# Altium integrated library Renesas Microcontroller H8S.IntLib: 670 symbols (part 22 of 70)
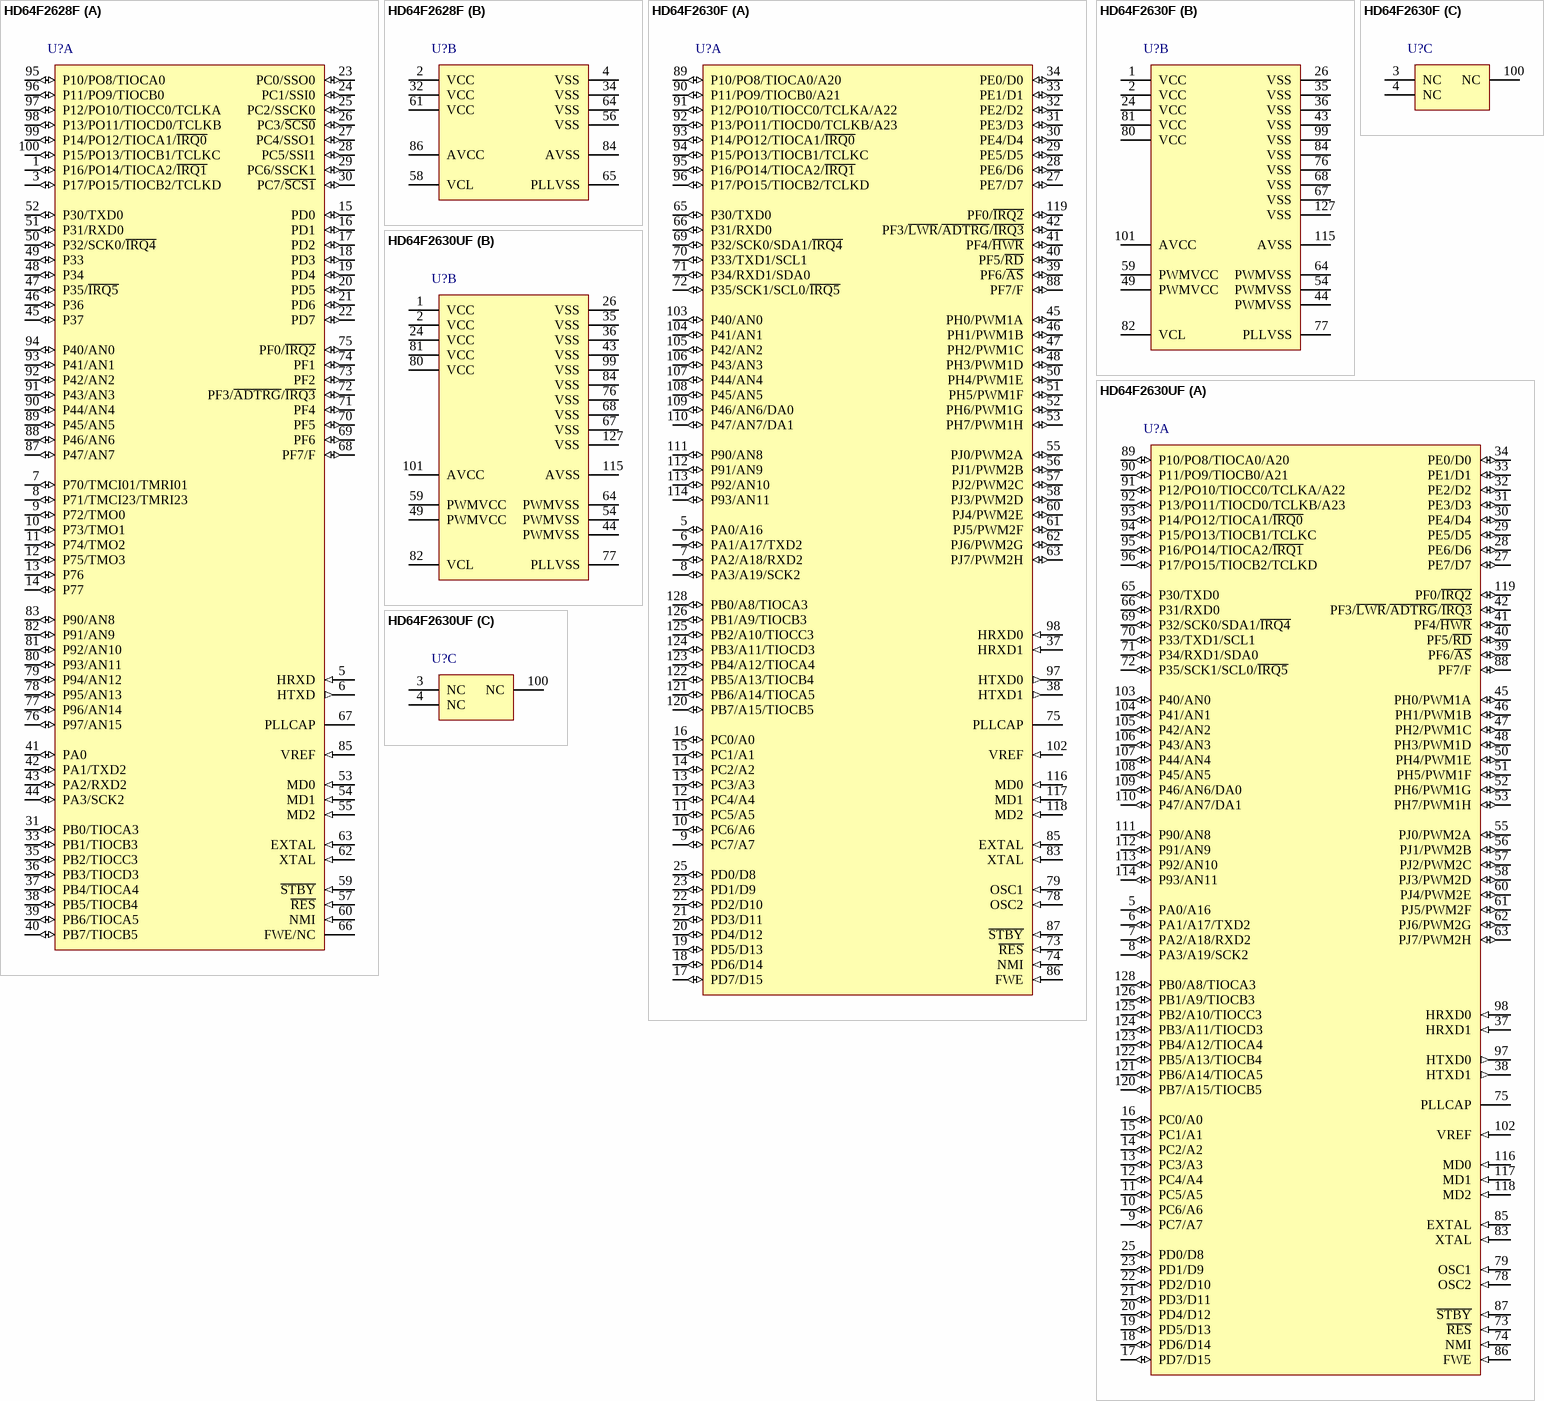
[diagram p355: symbols HD64F2628F to HD64F2630UF]

## HD64F2628F
designator U?
Flash memory H8S/2600 Series, 2628 Group MCU, 128K ROM, 8K RAM, FP-100M Pkg; Published: 28-Aug-2009; DatasheetVersion: Rev.3.00, Oct-2005; PackageVersion: Sep-2009; PackageReference: PRQP0100KB-A; Publisher: Altium Limited; PackageDescription: 100-Pin Plastic Quad Flat Pack, 14 x 14 x 2.7 mm Body, 0.5 mm Pitch; Code_JEITA: P-QFP100-14x14-0.50; ComponentLink1Description: Manufacturer Link; ComponentLink1URL: http://sg.renesas.com/fmwk.jsp?cnt=h8s_family_landing.jsp&fp=/products/mpumcu/h8s_family/; ComponentLink2Description: Datasheet; ComponentLink2URL: http://documentation.renesas.com/eng/products/mpumcu/rej09b0155_h8s2628.pdf; ComponentLink3Description: Packaging Specification; ComponentLink3URL: http://sg.renesas.com/media/products/common_info/package/pdf/ic/code/prqp0100kb_a.pdf
footprint PRQP0100KB-A_N (Shrink QFP, 100-Leads, Body 14x14mm, Pitch 0.5mm, IPC Medium Density)
footprint PRQP0100KB-A_L (Shrink QFP, 100-Leads, Body 14x14mm, Pitch 0.5mm, IPC High Density)
footprint PRQP0100KB-A_M (Shrink QFP, 100-Leads, Body 14x14mm, Pitch 0.5mm, IPC Low Density)
part A pins: 1 P16/PO14/TIOCA2/~{IRQ1} (io), 3 P17/PO15/TIOCB2/TCLKD (io), 5 HRXD (in), 6 HTXD (out), 7 P70/TMCI01/TMRI01 (io), 8 P71/TMCI23/TMRI23 (io), 9 P72/TMO0 (io), 10 P73/TMO1 (io), 11 P74/TMO2 (io), 12 P75/TMO3 (io), 13 P76 (io), 14 P77 (io), 15 PD0 (io), 16 PD1 (io), 17 PD2 (io), 18 PD3 (io), 19 PD4 (io), 20 PD5 (io), 21 PD6 (io), 22 PD7 (io), 23 PC0/SSO0 (io), 24 PC1/SSI0 (io), 25 PC2/SSCK0 (io), 26 PC3/~{SCS0} (io), 27 PC4/SSO1 (io), 28 PC5/SSI1 (io), 29 PC6/SSCK1 (io), 30 PC7/~{SCS1} (io), 31 PB0/TIOCA3 (io), 33 PB1/TIOCB3 (io), 35 PB2/TIOCC3 (io), 36 PB3/TIOCD3 (io), 37 PB4/TIOCA4 (io), 38 PB5/TIOCB4 (io), 39 PB6/TIOCA5 (io), 40 PB7/TIOCB5 (io), 41 PA0 (io), 42 PA1/TXD2 (io), 43 PA2/RXD2 (io), 44 PA3/SCK2 (io), 45 P37 (io), 46 P36 (io), 47 P35/~{IRQ5} (io), 48 P34 (io), 49 P33 (io), 50 P32/SCK0/~{IRQ4} (io), 51 P31/RXD0 (io), 52 P30/TXD0 (io), 53 MD0 (in), 54 MD1 (in), 55 MD2 (in), 57 ~{RES} (in), 59 ~{STBY} (in), 60 NMI (in), 62 XTAL (in), 63 EXTAL (in), 66 FWE/NC, 67 PLLCAP, 68 PF7/F (io), 69 PF6 (io), 70 PF5 (io), 71 PF4 (io), 72 PF3/~{ADTRG}/~{IRQ3} (io), 73 PF2 (io), 74 PF1 (io), 75 PF0/~{IRQ2} (io), 76 P97/AN15 (io), 77 P96/AN14 (io), 78 P95/AN13 (io), 79 P94/AN12 (io), 80 P93/AN11 (io), 81 P92/AN10 (io), 82 P91/AN9 (io), 83 P90/AN8 (io), 85 VREF (in), 87 P47/AN7 (io), 88 P46/AN6 (io), 89 P45/AN5 (io), 90 P44/AN4 (io), 91 P43/AN3 (io), 92 P42/AN2 (io), 93 P41/AN1 (io), 94 P40/AN0 (io), 95 P10/PO8/TIOCA0 (io), 96 P11/PO9/TIOCB0 (io), 97 P12/PO10/TIOCC0/TCLKA (io), 98 P13/PO11/TIOCD0/TCLKB (io), 99 P14/PO12/TIOCA1/~{IRQ0} (io), 100 P15/PO13/TIOCB1/TCLKC (io)
part B pins: 2 VCC (power), 4 VSS (power), 32 VCC (power), 34 VSS (power), 56 VSS (power), 58 VCL, 61 VCC (power), 64 VSS (power), 65 PLLVSS (power), 84 AVSS (power), 86 AVCC (power)

## HD64F2630F
designator U?
Flash memory H8S/2600 Series, 2630 Group MCU, 384K ROM, 16K RAM, FP-128B Pkg; Published: 28-Aug-2009; DatasheetVersion: Rev.7.00, Feb-2009; PackageVersion: Sep-2005; PackageReference: PRQP0128KB-A; Publisher: Altium Limited; PackageDescription: 128-Pin Plastic Quad Flat Pack, 20 x 14 x 2.7 mm Body, 0.5 mm Pitch; Code_JEITA: P-QFP128-14x20-0.50; Code_IPC: SQFP50P1600X2200-128; ComponentLink1Description: Manufacturer Link; ComponentLink1URL: http://sg.renesas.com/fmwk.jsp?cnt=h8s_family_landing.jsp&fp=/products/mpumcu/h8s_family/; ComponentLink2Description: Datasheet; ComponentLink2URL: http://documentation.renesas.com/eng/products/mpumcu/rej09b0103_h8s2639.pdf; ComponentLink3Description: Packaging Specification; ComponentLink3URL: http://sg.renesas.com/media/products/common_info/package/pdf/ic/code/prqp0128kb_a.pdf
footprint PRQP0128KB-A_N (Shrink QFP, 128-Leads, Body 20x14 mm, Pitch 0.5mm, IPC Medium Density)
footprint PRQP0128KB-A_L (Shrink QFP, 128-Leads, Body 20x14 mm, Pitch 0.5mm, IPC High Density)
footprint PRQP0128KB-A_M (Shrink QFP, 128-Leads, Body 20x14 mm, Pitch 0.5mm, IPC Low Density)
part A pins: 5 PA0/A16 (io), 6 PA1/A17/TXD2 (io), 7 PA2/A18/RXD2 (io), 8 PA3/A19/SCK2 (io), 9 PC7/A7 (io), 10 PC6/A6 (io), 11 PC5/A5 (io), 12 PC4/A4 (io), 13 PC3/A3 (io), 14 PC2/A2 (io), 15 PC1/A1 (io), 16 PC0/A0 (io), 17 PD7/D15 (io), 18 PD6/D14 (io), 19 PD5/D13 (io), 20 PD4/D12 (io), 21 PD3/D11 (io), 22 PD2/D10 (io), 23 PD1/D9 (io), 25 PD0/D8 (io), 27 PE7/D7 (io), 28 PE6/D6 (io), 29 PE5/D5 (io), 30 PE4/D4 (io), 31 PE3/D3 (io), 32 PE2/D2 (io), 33 PE1/D1 (io), 34 PE0/D0 (io), 37 HRXD1 (in), 38 HTXD1 (out), 39 PF6/~{AS} (io), 40 PF5/~{RD} (io), 41 PF4/~{HWR} (io), 42 PF3/~{LWR}/~{ADTRG}/~{IRQ3} (io), 45 PH0/PWM1A (io), 46 PH1/PWM1B (io), 47 PH2/PWM1C (io), 48 PH3/PWM1D (io), 50 PH4/PWM1E (io), 51 PH5/PWM1F (io), 52 PH6/PWM1G (io), 53 PH7/PWM1H (io), 55 PJ0/PWM2A (io), 56 PJ1/PWM2B (io), 57 PJ2/PWM2C (io), 58 PJ3/PWM2D (io), 60 PJ4/PWM2E (io), 61 PJ5/PWM2F (io), 62 PJ6/PWM2G (io), 63 PJ7/PWM2H (io), 65 P30/TXD0 (io), 66 P31/RXD0 (io), 69 P32/SCK0/SDA1/~{IRQ4} (io), 70 P33/TXD1/SCL1 (io), 71 P34/RXD1/SDA0 (io), 72 P35/SCK1/SCL0/~{IRQ5} (io), 73 ~{RES} (in), 74 NMI (in), 75 PLLCAP, 78 OSC2 (in), 79 OSC1 (in), 83 XTAL (in), 85 EXTAL (in), 86 FWE (in), 87 ~{STBY} (in), 88 PF7/F (io), 89 P10/PO8/TIOCA0/A20 (io), 90 P11/PO9/TIOCB0/A21 (io), 91 P12/PO10/TIOCC0/TCLKA/A22 (io), 92 P13/PO11/TIOCD0/TCLKB/A23 (io), 93 P14/PO12/TIOCA1/~{IRQ0} (io), 94 P15/PO13/TIOCB1/TCLKC (io), 95 P16/PO14/TIOCA2/~{IRQ1} (io), 96 P17/PO15/TIOCB2/TCLKD (io), 97 HTXD0 (out), 98 HRXD0 (in), 102 VREF (in), 103 P40/AN0 (io), 104 P41/AN1 (io), 105 P42/AN2 (io), 106 P43/AN3 (io), 107 P44/AN4 (io), 108 P45/AN5 (io), 109 P46/AN6/DA0 (io), 110 P47/AN7/DA1 (io), 111 P90/AN8 (io), 112 P91/AN9 (io), 113 P92/AN10 (io), 114 P93/AN11 (io), 116 MD0 (in), 117 MD1 (in), 118 MD2 (in), 119 PF0/~{IRQ2} (io), 120 PB7/A15/TIOCB5 (io), 121 PB6/A14/TIOCA5 (io), 122 PB5/A13/TIOCB4 (io), 123 PB4/A12/TIOCA4 (io), 124 PB3/A11/TIOCD3 (io), 125 PB2/A10/TIOCC3 (io), 126 PB1/A9/TIOCB3 (io), 128 PB0/A8/TIOCA3 (io)
part B pins: 1 VCC (power), 2 VCC (power), 24 VCC (power), 26 VSS (power), 35 VSS (power), 36 VSS (power), 43 VSS (power), 44 PWMVSS (power), 49 PWMVCC (power), 54 PWMVSS (power), 59 PWMVCC (power), 64 PWMVSS (power), 67 VSS (power), 68 VSS (power), 76 VSS (power), 77 PLLVSS (power), 80 VCC (power), 81 VCC (power), 82 VCL, 84 VSS (power), 99 VSS (power), 101 AVCC (power), 115 AVSS (power), 127 VSS (power)
part C pins: 3 NC, 4 NC, 100 NC

## HD64F2630UF
designator U?
Flash memory H8S/2600 Series, 2630 Group MCU, 384K ROM, 16K RAM, FP-128B Pkg; Published: 28-Aug-2009; DatasheetVersion: Rev.7.00, Feb-2009; PackageVersion: Sep-2005; PackageReference: PRQP0128KB-A; Publisher: Altium Limited; PackageDescription: 128-Pin Plastic Quad Flat Pack, 20 x 14 x 2.7 mm Body, 0.5 mm Pitch; Code_JEITA: P-QFP128-14x20-0.50; Code_IPC: SQFP50P1600X2200-128; ComponentLink1Description: Manufacturer Link; ComponentLink1URL: http://sg.renesas.com/fmwk.jsp?cnt=h8s_family_landing.jsp&fp=/products/mpumcu/h8s_family/; ComponentLink2Description: Datasheet; ComponentLink2URL: http://documentation.renesas.com/eng/products/mpumcu/rej09b0103_h8s2639.pdf; ComponentLink3Description: Packaging Specification; ComponentLink3URL: http://sg.renesas.com/media/products/common_info/package/pdf/ic/code/prqp0128kb_a.pdf
footprint PRQP0128KB-A_N (Shrink QFP, 128-Leads, Body 20x14 mm, Pitch 0.5mm, IPC Medium Density)
footprint PRQP0128KB-A_L (Shrink QFP, 128-Leads, Body 20x14 mm, Pitch 0.5mm, IPC High Density)
footprint PRQP0128KB-A_M (Shrink QFP, 128-Leads, Body 20x14 mm, Pitch 0.5mm, IPC Low Density)
part A pins: 5 PA0/A16 (io), 6 PA1/A17/TXD2 (io), 7 PA2/A18/RXD2 (io), 8 PA3/A19/SCK2 (io), 9 PC7/A7 (io), 10 PC6/A6 (io), 11 PC5/A5 (io), 12 PC4/A4 (io), 13 PC3/A3 (io), 14 PC2/A2 (io), 15 PC1/A1 (io), 16 PC0/A0 (io), 17 PD7/D15 (io), 18 PD6/D14 (io), 19 PD5/D13 (io), 20 PD4/D12 (io), 21 PD3/D11 (io), 22 PD2/D10 (io), 23 PD1/D9 (io), 25 PD0/D8 (io), 27 PE7/D7 (io), 28 PE6/D6 (io), 29 PE5/D5 (io), 30 PE4/D4 (io), 31 PE3/D3 (io), 32 PE2/D2 (io), 33 PE1/D1 (io), 34 PE0/D0 (io), 37 HRXD1 (in), 38 HTXD1 (out), 39 PF6/~{AS} (io), 40 PF5/~{RD} (io), 41 PF4/~{HWR} (io), 42 PF3/~{LWR}/~{ADTRG}/~{IRQ3} (io), 45 PH0/PWM1A (io), 46 PH1/PWM1B (io), 47 PH2/PWM1C (io), 48 PH3/PWM1D (io), 50 PH4/PWM1E (io), 51 PH5/PWM1F (io), 52 PH6/PWM1G (io), 53 PH7/PWM1H (io), 55 PJ0/PWM2A (io), 56 PJ1/PWM2B (io), 57 PJ2/PWM2C (io), 58 PJ3/PWM2D (io), 60 PJ4/PWM2E (io), 61 PJ5/PWM2F (io), 62 PJ6/PWM2G (io), 63 PJ7/PWM2H (io), 65 P30/TXD0 (io), 66 P31/RXD0 (io), 69 P32/SCK0/SDA1/~{IRQ4} (io), 70 P33/TXD1/SCL1 (io), 71 P34/RXD1/SDA0 (io), 72 P35/SCK1/SCL0/~{IRQ5} (io), 73 ~{RES} (in), 74 NMI (in), 75 PLLCAP, 78 OSC2 (in), 79 OSC1 (in), 83 XTAL (in), 85 EXTAL (in), 86 FWE (in), 87 ~{STBY} (in), 88 PF7/F (io), 89 P10/PO8/TIOCA0/A20 (io), 90 P11/PO9/TIOCB0/A21 (io), 91 P12/PO10/TIOCC0/TCLKA/A22 (io), 92 P13/PO11/TIOCD0/TCLKB/A23 (io), 93 P14/PO12/TIOCA1/~{IRQ0} (io), 94 P15/PO13/TIOCB1/TCLKC (io), 95 P16/PO14/TIOCA2/~{IRQ1} (io), 96 P17/PO15/TIOCB2/TCLKD (io), 97 HTXD0 (out), 98 HRXD0 (in), 102 VREF (in), 103 P40/AN0 (io), 104 P41/AN1 (io), 105 P42/AN2 (io), 106 P43/AN3 (io), 107 P44/AN4 (io), 108 P45/AN5 (io), 109 P46/AN6/DA0 (io), 110 P47/AN7/DA1 (io), 111 P90/AN8 (io), 112 P91/AN9 (io), 113 P92/AN10 (io), 114 P93/AN11 (io), 116 MD0 (in), 117 MD1 (in), 118 MD2 (in), 119 PF0/~{IRQ2} (io), 120 PB7/A15/TIOCB5 (io), 121 PB6/A14/TIOCA5 (io), 122 PB5/A13/TIOCB4 (io), 123 PB4/A12/TIOCA4 (io), 124 PB3/A11/TIOCD3 (io), 125 PB2/A10/TIOCC3 (io), 126 PB1/A9/TIOCB3 (io), 128 PB0/A8/TIOCA3 (io)
part B pins: 1 VCC (power), 2 VCC (power), 24 VCC (power), 26 VSS (power), 35 VSS (power), 36 VSS (power), 43 VSS (power), 44 PWMVSS (power), 49 PWMVCC (power), 54 PWMVSS (power), 59 PWMVCC (power), 64 PWMVSS (power), 67 VSS (power), 68 VSS (power), 76 VSS (power), 77 PLLVSS (power), 80 VCC (power), 81 VCC (power), 82 VCL, 84 VSS (power), 99 VSS (power), 101 AVCC (power), 115 AVSS (power), 127 VSS (power)
part C pins: 3 NC, 4 NC, 100 NC

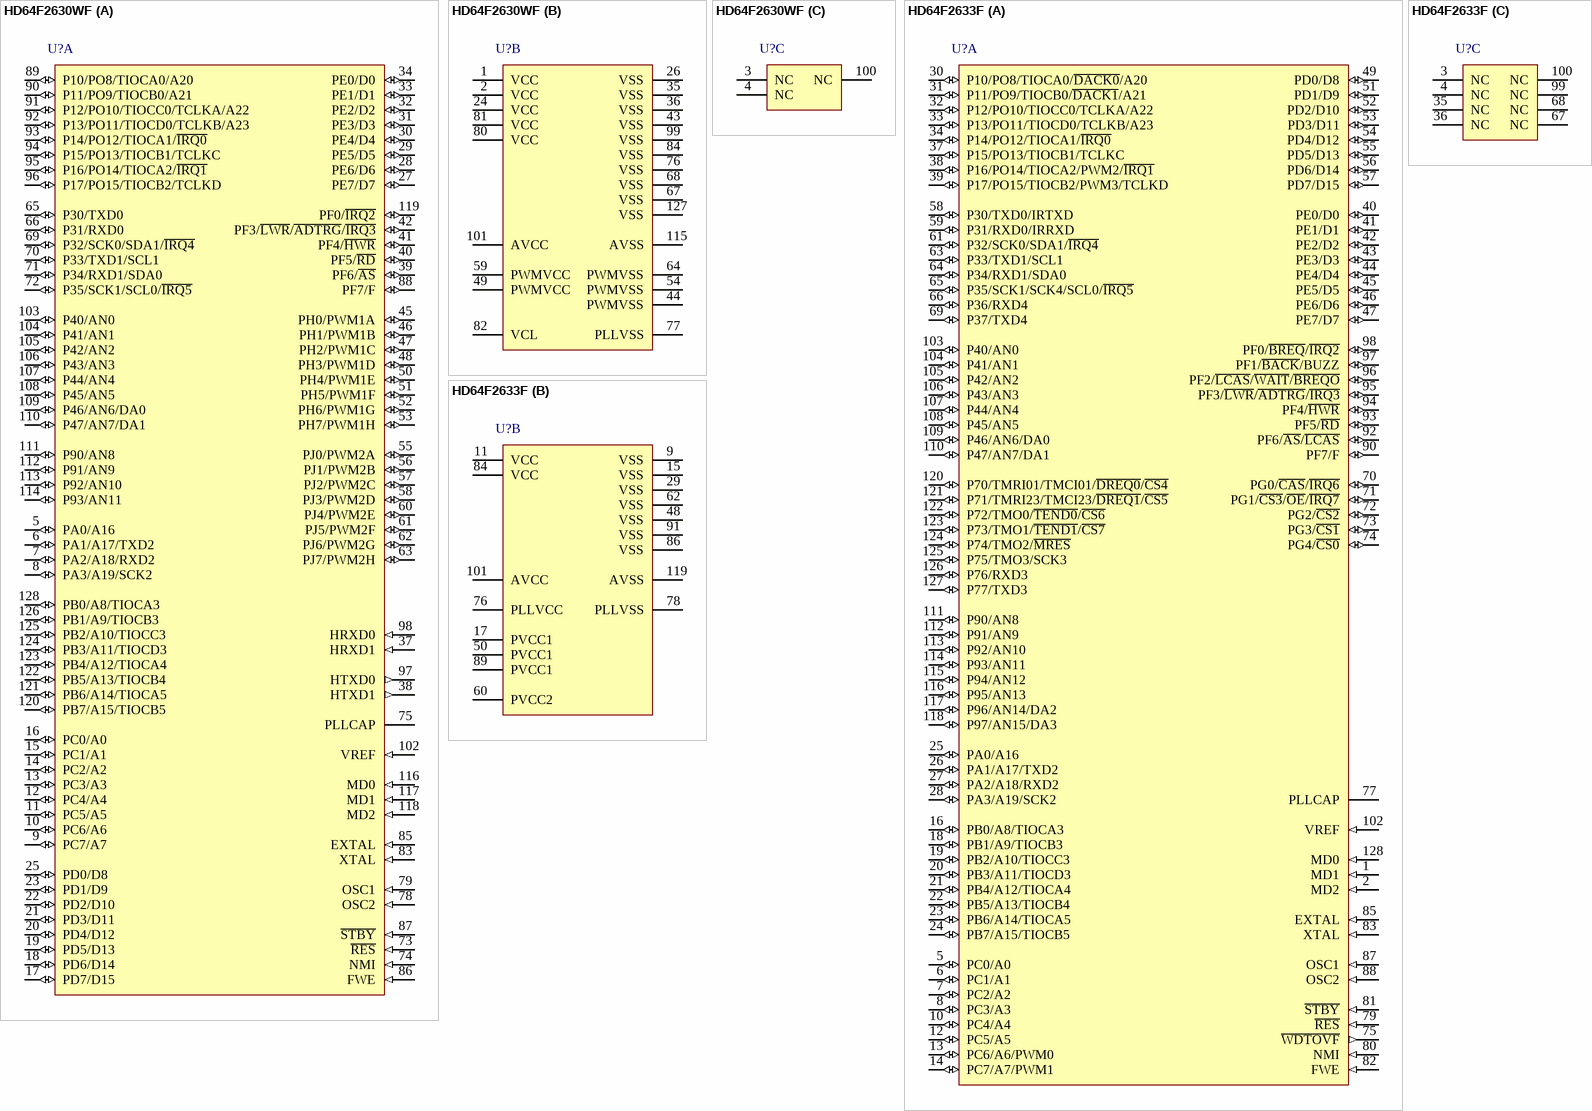
[diagram p78: symbols HD64F2630WF to HD64F2633F]

## HD64F2630WF
designator U?
Flash memory H8S/2600 Series, 2630 Group MCU, 384K ROM, 16K RAM, FP-128B Pkg; Published: 28-Aug-2009; DatasheetVersion: Rev.7.00, Feb-2009; PackageVersion: Sep-2005; PackageReference: PRQP0128KB-A; Publisher: Altium Limited; PackageDescription: 128-Pin Plastic Quad Flat Pack, 20 x 14 x 2.7 mm Body, 0.5 mm Pitch; Code_JEITA: P-QFP128-14x20-0.50; Code_IPC: SQFP50P1600X2200-128; ComponentLink1Description: Manufacturer Link; ComponentLink1URL: http://sg.renesas.com/fmwk.jsp?cnt=h8s_family_landing.jsp&fp=/products/mpumcu/h8s_family/; ComponentLink2Description: Datasheet; ComponentLink2URL: http://documentation.renesas.com/eng/products/mpumcu/rej09b0103_h8s2639.pdf; ComponentLink3Description: Packaging Specification; ComponentLink3URL: http://sg.renesas.com/media/products/common_info/package/pdf/ic/code/prqp0128kb_a.pdf
footprint PRQP0128KB-A_N (Shrink QFP, 128-Leads, Body 20x14 mm, Pitch 0.5mm, IPC Medium Density)
footprint PRQP0128KB-A_L (Shrink QFP, 128-Leads, Body 20x14 mm, Pitch 0.5mm, IPC High Density)
footprint PRQP0128KB-A_M (Shrink QFP, 128-Leads, Body 20x14 mm, Pitch 0.5mm, IPC Low Density)
part A pins: 5 PA0/A16 (io), 6 PA1/A17/TXD2 (io), 7 PA2/A18/RXD2 (io), 8 PA3/A19/SCK2 (io), 9 PC7/A7 (io), 10 PC6/A6 (io), 11 PC5/A5 (io), 12 PC4/A4 (io), 13 PC3/A3 (io), 14 PC2/A2 (io), 15 PC1/A1 (io), 16 PC0/A0 (io), 17 PD7/D15 (io), 18 PD6/D14 (io), 19 PD5/D13 (io), 20 PD4/D12 (io), 21 PD3/D11 (io), 22 PD2/D10 (io), 23 PD1/D9 (io), 25 PD0/D8 (io), 27 PE7/D7 (io), 28 PE6/D6 (io), 29 PE5/D5 (io), 30 PE4/D4 (io), 31 PE3/D3 (io), 32 PE2/D2 (io), 33 PE1/D1 (io), 34 PE0/D0 (io), 37 HRXD1 (in), 38 HTXD1 (out), 39 PF6/~{AS} (io), 40 PF5/~{RD} (io), 41 PF4/~{HWR} (io), 42 PF3/~{LWR}/~{ADTRG}/~{IRQ3} (io), 45 PH0/PWM1A (io), 46 PH1/PWM1B (io), 47 PH2/PWM1C (io), 48 PH3/PWM1D (io), 50 PH4/PWM1E (io), 51 PH5/PWM1F (io), 52 PH6/PWM1G (io), 53 PH7/PWM1H (io), 55 PJ0/PWM2A (io), 56 PJ1/PWM2B (io), 57 PJ2/PWM2C (io), 58 PJ3/PWM2D (io), 60 PJ4/PWM2E (io), 61 PJ5/PWM2F (io), 62 PJ6/PWM2G (io), 63 PJ7/PWM2H (io), 65 P30/TXD0 (io), 66 P31/RXD0 (io), 69 P32/SCK0/SDA1/~{IRQ4} (io), 70 P33/TXD1/SCL1 (io), 71 P34/RXD1/SDA0 (io), 72 P35/SCK1/SCL0/~{IRQ5} (io), 73 ~{RES} (in), 74 NMI (in), 75 PLLCAP, 78 OSC2 (in), 79 OSC1 (in), 83 XTAL (in), 85 EXTAL (in), 86 FWE (in), 87 ~{STBY} (in), 88 PF7/F (io), 89 P10/PO8/TIOCA0/A20 (io), 90 P11/PO9/TIOCB0/A21 (io), 91 P12/PO10/TIOCC0/TCLKA/A22 (io), 92 P13/PO11/TIOCD0/TCLKB/A23 (io), 93 P14/PO12/TIOCA1/~{IRQ0} (io), 94 P15/PO13/TIOCB1/TCLKC (io), 95 P16/PO14/TIOCA2/~{IRQ1} (io), 96 P17/PO15/TIOCB2/TCLKD (io), 97 HTXD0 (out), 98 HRXD0 (in), 102 VREF (in), 103 P40/AN0 (io), 104 P41/AN1 (io), 105 P42/AN2 (io), 106 P43/AN3 (io), 107 P44/AN4 (io), 108 P45/AN5 (io), 109 P46/AN6/DA0 (io), 110 P47/AN7/DA1 (io), 111 P90/AN8 (io), 112 P91/AN9 (io), 113 P92/AN10 (io), 114 P93/AN11 (io), 116 MD0 (in), 117 MD1 (in), 118 MD2 (in), 119 PF0/~{IRQ2} (io), 120 PB7/A15/TIOCB5 (io), 121 PB6/A14/TIOCA5 (io), 122 PB5/A13/TIOCB4 (io), 123 PB4/A12/TIOCA4 (io), 124 PB3/A11/TIOCD3 (io), 125 PB2/A10/TIOCC3 (io), 126 PB1/A9/TIOCB3 (io), 128 PB0/A8/TIOCA3 (io)
part B pins: 1 VCC (power), 2 VCC (power), 24 VCC (power), 26 VSS (power), 35 VSS (power), 36 VSS (power), 43 VSS (power), 44 PWMVSS (power), 49 PWMVCC (power), 54 PWMVSS (power), 59 PWMVCC (power), 64 PWMVSS (power), 67 VSS (power), 68 VSS (power), 76 VSS (power), 77 PLLVSS (power), 80 VCC (power), 81 VCC (power), 82 VCL, 84 VSS (power), 99 VSS (power), 101 AVCC (power), 115 AVSS (power), 127 VSS (power)
part C pins: 3 NC, 4 NC, 100 NC